# EAGLE library part USBLC6-2SC6 (library timearc)
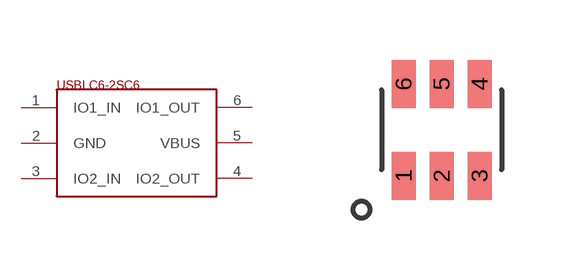
[diagram p1: symbol with the pads of SOT23; footprint SOT23]

Designator prefix -

## USBLC6-2SC6 (MPN: USBLC6-2SC6; OC_FARNELL: 1269406)  [SOT23]
1  IO1_IN
2  GND
3  IO2_IN
4  IO2_OUT
5  VBUS
6  IO1_OUT

## Footprint SOT23 (pad centres in mm)
smd 0.6 x 1.2: 1 -0.95,-1.15; 2 0,-1.15; 3 0.95,-1.15; 4 0.95,1.15; 5 0,1.15; 6 -0.95,1.15